# EAGLE library part AUIRS21814S (library AUIRS21814S)
HIGH- AND LOW-SIDE DRIVER Source: Datasheet
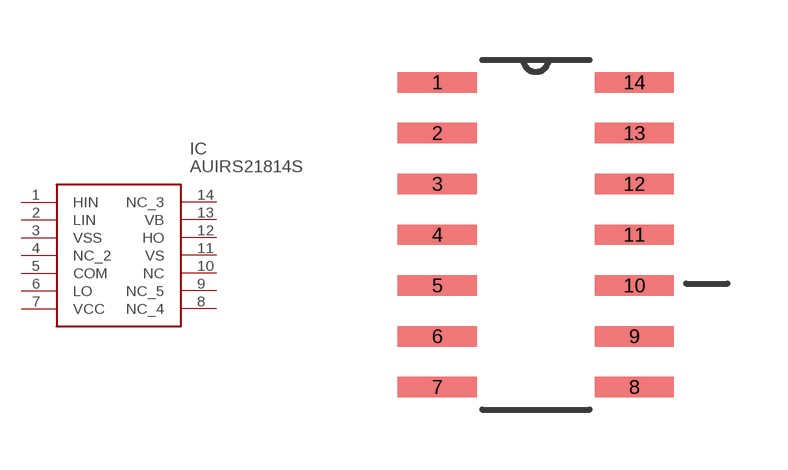
[diagram p0: symbol with the pads of SOIC127P600X175-14N; footprint SOIC127P600X175-14N]

Designator prefix IC

## AUIRS21814S (Description: HIGH- AND LOW-SIDE DRIVER; Height: mm; Manufacturer_Name: Infineon; Manufacturer_Part_Number: AUIRS21814S)  [SOIC127P600X175-14N]
1  HIN
2  LIN
3  VSS
4  NC_2
5  COM
6  LO
7  VCC
8  NC_4
9  NC_5
10  NC  nc
11  VS
12  HO
13  VB
14  NC_3

## Footprint SOIC127P600X175-14N (pad centres in mm)
SOIC127P600X175-14N
smd 1.981 x 0.508: 1 -2.464,3.81; 2 -2.464,2.54; 3 -2.464,1.27; 4 -2.464,0; 5 -2.464,-1.27; 6 -2.464,-2.54; 7 -2.464,-3.81; 8 2.464,-3.81; 9 2.464,-2.54; 10 2.464,-1.27; 11 2.464,0; 12 2.464,1.27; 13 2.464,2.54; 14 2.464,3.81